# EAGLE library part BGA64-ADAPTER (library TSlib)
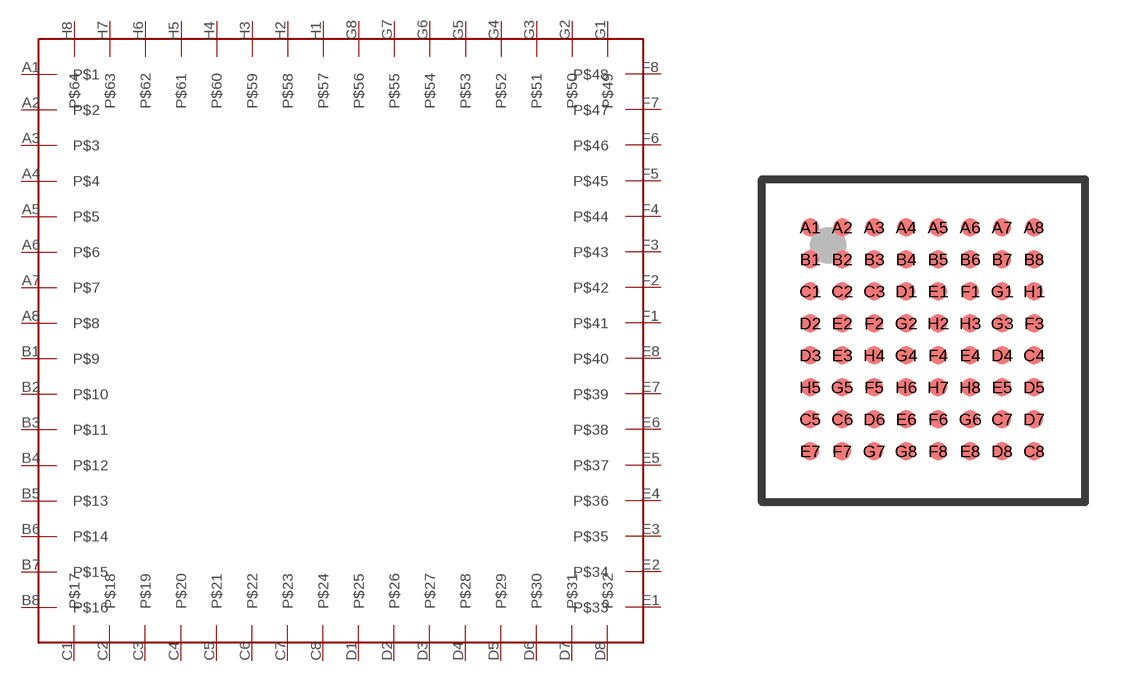
[diagram p0: symbol with the pads of PBGA64_0.8; footprint PBGA64_0.8]

Designator prefix -

## BGA64-ADAPTER  [PBGA64_0.8]
A1  P$1
A2  P$2
A3  P$3
A4  P$4
A5  P$5
A6  P$6
A7  P$7
A8  P$8
B1  P$9
B2  P$10
B3  P$11
B4  P$12
B5  P$13
B6  P$14
B7  P$15
B8  P$16
C1  P$17
C2  P$18
C3  P$19
C4  P$20
C5  P$21
C6  P$22
C7  P$23
C8  P$24
D1  P$25
D2  P$26
D3  P$27
D4  P$28
D5  P$29
D6  P$30
D7  P$31
D8  P$32
E1  P$33
E2  P$34
E3  P$35
E4  P$36
E5  P$37
E6  P$38
E7  P$39
E8  P$40
F1  P$41
F2  P$42
F3  P$43
F4  P$44
F5  P$45
F6  P$46
F7  P$47
F8  P$48
G1  P$49
G2  P$50
G3  P$51
G4  P$52
G5  P$53
G6  P$54
G7  P$55
G8  P$56
H1  P$57
H2  P$58
H3  P$59
H4  P$60
H5  P$61
H6  P$62
H7  P$63
H8  P$64

## Footprint PBGA64_0.8 (pad centres in mm)
64-Ball Plastic FBGA 6 x 6 mm Source: http://www1.plxtech.com/TEMP/77131/NET2272r1A_data_book_v1.92_31Oct05.pdf
smd 0.45 x 0.45: A1 -2.4,2.4; A2 -1.6,2.4; A3 -0.8,2.4; A4 0,2.4; A5 0.8,2.4; A6 1.6,2.4; A7 2.4,2.4; A8 3.2,2.4; B1 -2.4,1.6; B2 -1.6,1.6; B3 -0.8,1.6; B4 0,1.6; B5 0.8,1.6; B6 1.6,1.6; B7 2.4,1.6; B8 3.2,1.6; C1 -2.4,0.8; C2 -1.6,0.8; C3 -0.8,0.8; C4 3.2,-0.8; C5 -2.4,-2.4; C6 -1.6,-2.4; C7 2.4,-2.4; C8 3.2,-3.2; D1 0,0.8; D2 -2.4,0; D3 -2.4,-0.8; D4 2.4,-0.8; D5 3.2,-1.6; D6 -0.8,-2.4; D7 3.2,-2.4; D8 2.4,-3.2; E1 0.8,0.8; E2 -1.6,0; E3 -1.6,-0.8; E4 1.6,-0.8; E5 2.4,-1.6; E6 0,-2.4; E7 -2.4,-3.2; E8 1.6,-3.2; F1 1.6,0.8; F2 -0.8,0; F3 3.2,0; F4 0.8,-0.8; F5 -0.8,-1.6; F6 0.8,-2.4; F7 -1.6,-3.2; F8 0.8,-3.2; G1 2.4,0.8; G2 0,0; G3 2.4,0; G4 0,-0.8; G5 -1.6,-1.6; G6 1.6,-2.4; G7 -0.8,-3.2; G8 0,-3.2; H1 3.2,0.8; H2 0.8,0; H3 1.6,0; H4 -0.8,-0.8; H5 -2.4,-1.6; H6 0,-1.6; H7 0.8,-1.6; H8 1.6,-1.6